# Altium footprint library A.PcbLib: 25 footprints (part 1 of 2)
Each footprint in its own frame and in the unit in brackets; x right, y up, seen from the top. Pads: shape width x height; smd on the part's side, far side on the other; paste and mask are expansions set on the pad; w line width, h text height; cw(c..) or ccw(c..) is an arc to the next point about the centre after c.
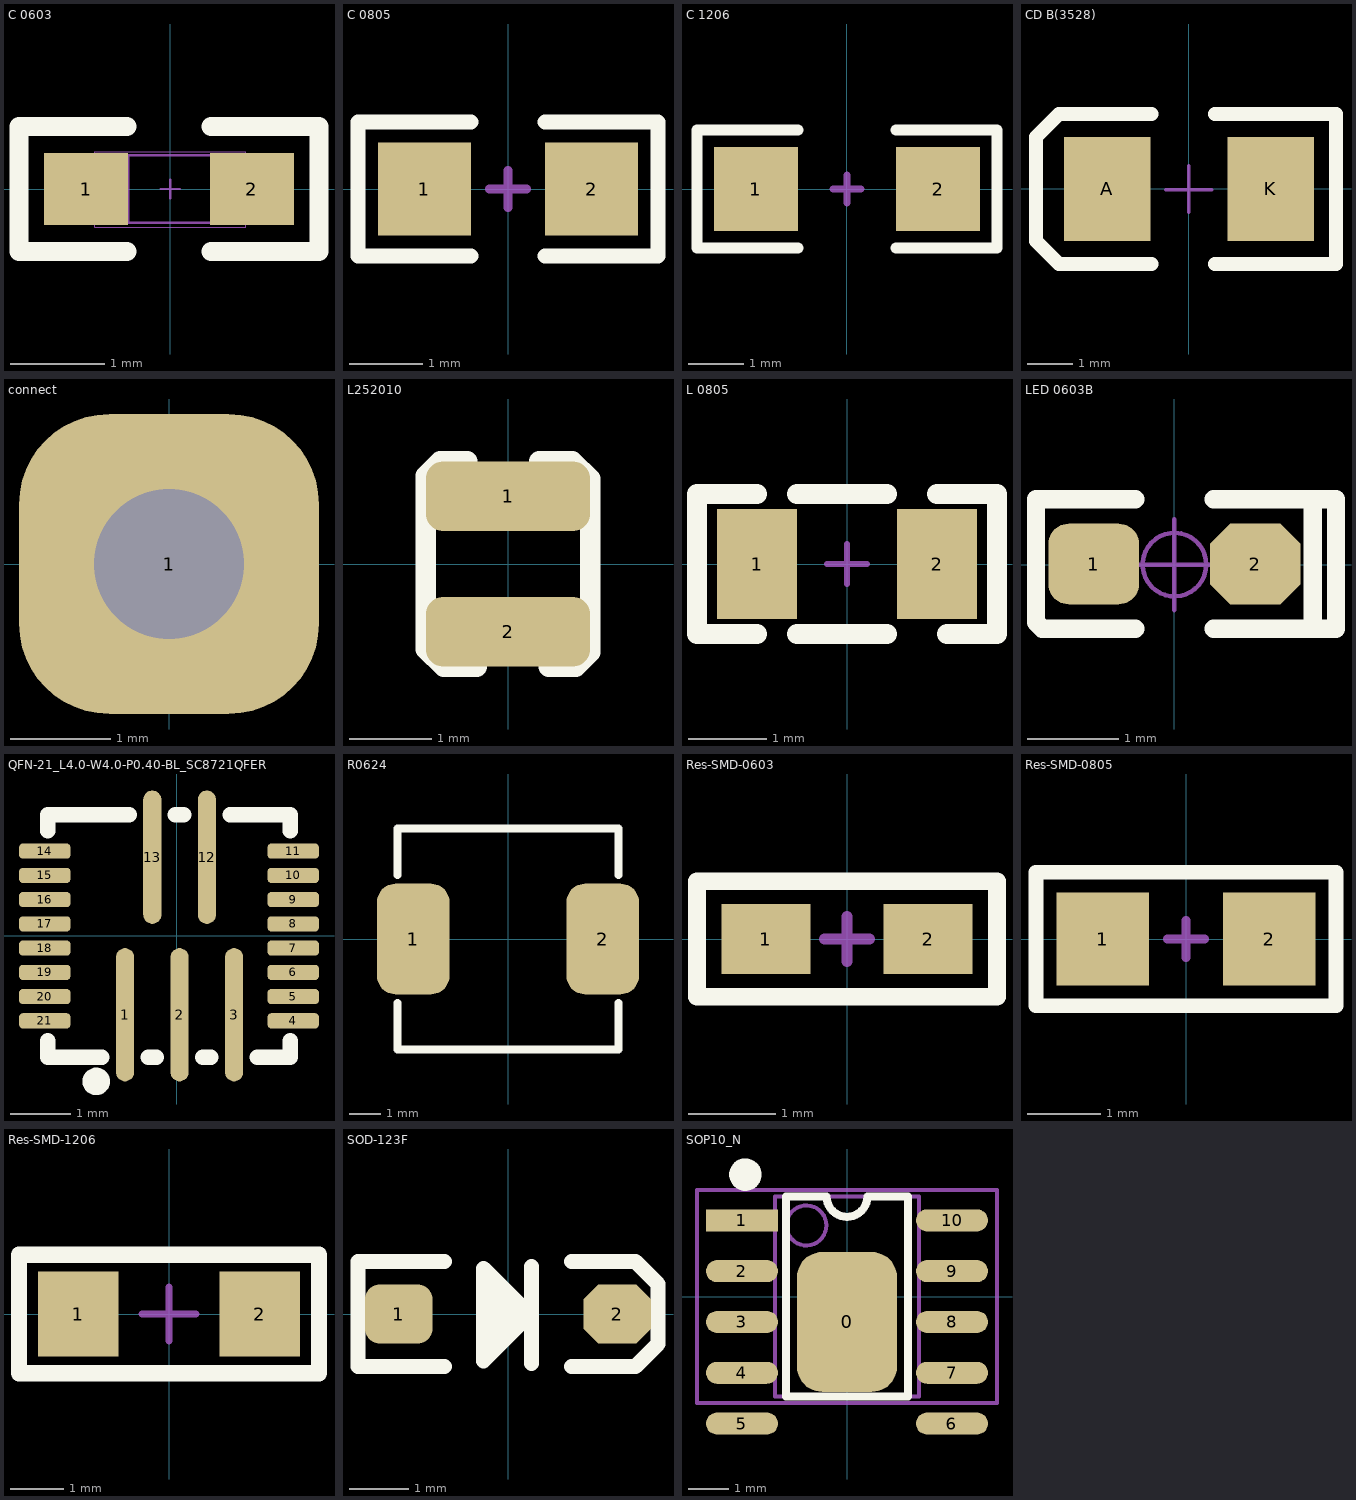
[diagram p0: the footprints below, top view; thin cyan lines are the x and y axes]

## C 0603 [mil] "无极性贴片电容"
pads (2):
  rect 35x30 smd: 1(-35,0) 2(34,0)
Top Overlay:
  lines w8: -18,-26 -63,-26 -63,26 -18,26 ; 17,-26 62,-26 62,26 17,26
Mechanical 13:
  lines w0.39: -31.5,-16 31.5,-16 31.5,15.5 -31.5,15.5 -31.5,-16
Mechanical 15:
  lines w1: -17.5,-14 -17.5,14 ; -3.94,0 3.94,0 ; 0,-3.94 0,3.94 ; 17.5,-14 17.5,14 ; -32,-14 32,-14 32,14 -32,14 -32,-14
3D body "C 0603.STEP": height 31.89, standoff -0.39, extent -31.5,-16.14 31.5,16.14

## C 0805 [mil] "无极性贴片电容"
height 19.68
pads (2):
  rect 50x50 smd: 1(-45,0) 2(45,0)
Top Overlay:
  lines w8: -20,-36 -80.71,-36 -80.71,36 -20,36 ; 20,-36 80.71,-36 80.71,36 20,36
Mechanical 15:
  lines w5: -10,0 10,0 ; 0,-10 0,10
3D body "C 0805.STEP": height 20.08, standoff -0.39, extent -39.37,-24.02 39.37,24.02

## C 1206 [mil] "无极性贴片电容"
pads (2):
  rect 60x60 smd: 1(-65,0) 2(65,0)
Top Overlay:
  lines w8: -35,-42 -107,-42 -107,42 -35,42 ; 35,-42 107,-42 107,42 35,42
Mechanical 15:
  lines w5: -10,0 10,0 ; 0,-10 0,10
3D body "C 1206.STEP": height 47.64, standoff -0.39, extent -62.99,-31.89 62.99,31.89

## CD B(3528) [mil] "长3.5mm，宽2.8mm，厚1.9mm"
pads (2):
  rect 75x90 smd: A(-70.87,-0.01) K(70.86,-0.01)
Top Overlay:
  lines w12: -32.51,-65.01 -112.51,-65.01 -132.51,-45.01 -132.51,44.99 -112.51,64.99 -32.51,64.99 ; 22.49,-65.01 127.49,-65.01 127.49,64.99 22.49,64.99
Mechanical 15:
  lines w3: -20.01,-0.79 19.99,-0.79 ; -0.01,-20.01 -0.01,19.99
3D body "CD B(3528).STEP": height 74.84, standoff -0.3, extent -68.92,-55.12 68.91,55.11

## connect [mm]
pads (1):
  rrect60% 3x3 hole 1.5: 1(0,0)

## L252010 [mm]
pads (2):
  rrect50% 2x0.85 smd: 1(0,0.825) 2(0,-0.825)
Top Overlay:
  lines w0.254: -0.5,1.25 -0.821,1.25 -1,1.071 -1,-1.032 -0.782,-1.25 -0.381,-1.25 ; 0.381,1.25 0.782,1.25 1,1.032 1,-1.071 0.821,-1.25 0.5,-1.25

## L 0805 [mil] "小功率贴片电感"
pads (2):
  rect 40x55 smd: 1(-45,0) 2(45,0)
Top Overlay:
  lines w10: -45,-35 -75,-35 -75,35 -45,35 ; -25,-35 20,-35 ; -25,35 20,35 ; 45,35 75,35 75,-35 50,-35
Mechanical 15:
  lines w3: -10,0 10,0 ; 0,-10 0,10
3D body "0805.STEP": height 35.43, standoff -0.11, extent -39.37,-23.62 39.37,23.62

## LED 0603B [mm] "蓝色0603LED"
pads (2):
  rrect50% 1x0.889 smd: 1(-0.889,0.007)
  oct 1x0.889 smd: 2(0.889,0.007)
Top Overlay:
  lines w0.203: -0.432,-0.705 -1.454,-0.705 -1.524,-0.635 -1.524,0.718 -0.432,0.718 ; 0.432,-0.705 1.778,-0.705 ; 0.432,0.718 1.524,0.718 1.524,-0.705 1.778,-0.705 ; 1.143,0.718 1.778,0.718 1.778,-0.705
Mechanical 15:
  circle w0.05: c0,0 r0.35
  lines w0.05: -0.5,0 0.5,0 ; 0,-0.5 0,0.5
3D body "LED 0603-B.STEP": height 0.47, standoff 0, extent -0.8,-0.401 0.8,0.401
3D body "LED 0603玻璃罩.STEP": height 0.61, standoff 0.21, extent -0.599,-0.401 0.599,0.401

## QFN16_4*4 [mm]

## QFN-21_L4.0-W4.0-P0.40-BL_SC8721QFER [mm]
height 1
pads (21):
  oval 0.3x2.2 smd: 1(-0.852,-1.3) 2(0.048,-1.3) 3(0.948,-1.3) 12(0.498,1.3) 13(-0.402,1.3)
  rrect50% 0.85x0.25 smd: 4(1.923,-1.4) 5(1.923,-1) 6(1.923,-0.6) 7(1.923,-0.2) 8(1.923,0.2) 9(1.923,0.6) 10(1.923,1) 11(1.923,1.4) 14(-2.177,1.4) 15(-2.177,1) 16(-2.177,0.6) 17(-2.177,0.2) 18(-2.177,-0.2) 19(-2.177,-0.6) 20(-2.177,-1) 21(-2.177,-1.4)
Top Overlay:
  circle w0.254: c-1.327,-2.4 r0.1
  lines w0.254: -2.127,-1.731 -2.127,-2 -1.233,-2 ; -2.127,1.731 -2.127,2 -0.783,2 ; -0.471,-2 -0.333,-2 ; -0.021,2 0.117,2 ; 0.429,-2 0.567,-2 ; 0.879,2 1.873,2 1.873,1.731 ; 1.329,-2 1.873,-2 1.873,-1.731

## R0624 [mm]
height 2
pads (2):
  rrect50% 2.3x3.5 smd: 1(-3,0) 2(3,0)
Top Overlay:
  lines w0.254: -3.5,-2.032 -3.5,-3.5 3.5,-3.5 3.5,-2.032 ; -3.5,2.032 -3.5,3.5 3.5,3.5 3.5,2.032

## Res-SMD-0603 [mil] "1/10W贴片电阻"
pads (2):
  rect 40x31.5 smd: 1(-36.5,0) 2(36.5,0)
Top Overlay:
  lines w8: -67.5,-26 -67.5,26 67.5,26 67.5,-26 -67.5,-26
Mechanical 15:
  lines w5: -10,0 10,0 ; 0,-10 0,10
3D body "R 0603.STEP": height 15.79, standoff -0.13, extent -31.49,-15.74 31.5,15.75

## Res-SMD-0805 [mil] "1/8W贴片电阻"
pads (2):
  rect 50x50 smd: 1(-45,0) 2(45,0)
Top Overlay:
  lines w8: -81,-36 -81,36 81,36 81,-36 -81,-36
Mechanical 15:
  lines w5: -10,0 10,0 ; 0,-10 0,10
3D body "R 0805.STEP": height 19.72, standoff -0.24, extent -39.37,-24.6 39.37,24.61

## Res-SMD-1206 [mil] "1/4W贴片电阻"
pads (2):
  rect 60x62.99 smd: 1(-67.5,0) 2(67.5,0)
Top Overlay:
  lines w12: -111.5,-44 -111.5,44 111.5,44 111.5,-44 -111.5,-44
Mechanical 15:
  lines w5: -20,0 20,0 ; 0,-20 0,20
3D body "R 1206.STEP": height 21.69, standoff -0.24, extent -62.99,-31.49 63,31.5

## SOD-123F [mm] "2.7x1.6X1.1mm（长宽高，不包括引脚）"
pads (2):
  rrect50% 1.15x1 smd: 1(-1.85,0)
  oct 1.15x1 smd: 2(1.85,0)
Top Overlay:
  lines w0.254: -1.079,-0.889 -2.54,-0.889 -2.54,0.889 -1.079,0.889 ; -0.254,0.559 -0.229,-0.432 0.254,0 0,0.254 0,0 0,-0.254 ; 0.356,-0.02 -0.417,-0.792 -0.417,0.775 0.396,-0.038 ; 0.396,-0.841 0.396,0.805 ; 1.079,-0.889 2.159,-0.889 2.54,-0.508 2.54,0.508 2.159,0.889 1.079,0.889
Mechanical 15:
  circle w0.05: c0,0 r0.35
  lines w0.05: -0.5,0 0.5,0 ; 0,-0.5 0,0.5
3D body "SOD-123F.STEP": height 1.15, standoff 0.04, extent -1.9,-0.8 1.9,0.8

## SOP10_N [mm] "5*6*1.8mm（长宽高）"
height 1.75
pads (11):
  rrect50% 2.5x3.5 smd: 0(0,-0.635)
  rect 1.8x0.55 smd: 1(-2.625,1.905)
  oval 1.8x0.55 smd: 2(-2.625,0.635) 3(-2.625,-0.635) 4(-2.625,-1.905) 5(-2.625,-3.175) 6(2.625,-3.175) 7(2.625,-1.905) 8(2.625,-0.635) 9(2.625,0.635) 10(2.625,1.905)
Top Overlay:
  circle w0.5: c-2.54,3.048 r0.155
  lines w0.2: -1.524,2.5 -1.524,-2.5 1.524,-2.5 1.524,2.5
  lines w0.203: -1.524,2.5 -0.508,2.5 ccw(c0,2.5) 0,1.992 ccw(c0,2.5) 0.508,2.5 1.524,2.5
Mechanical 13:
  circle w0.1: c-1.016,1.778 r0.5
  lines w0.1: -1.8,-2.5 -1.8,2.5 1.8,2.5 1.8,-2.5 -1.8,-2.5
Mechanical 15:
  circle w0.05: c0,0 r0.35
  lines w0.05: -0.5,0 0.5,0 ; 0,-0.5 0,0.5
  lines w0.1: -3.75,-2.667 3.75,-2.667 3.75,2.667 -3.75,2.667 -3.75,-2.667
3D body: height 0.25, standoff 0, extent -3.003,-2.5 3.003,2.5